# EAGLE library part RTL8211F-CG (library RTL8211F-CG)
NTEGRATED 10/100/1000M ETHERNET TRANSCEIVER Source: Datasheet
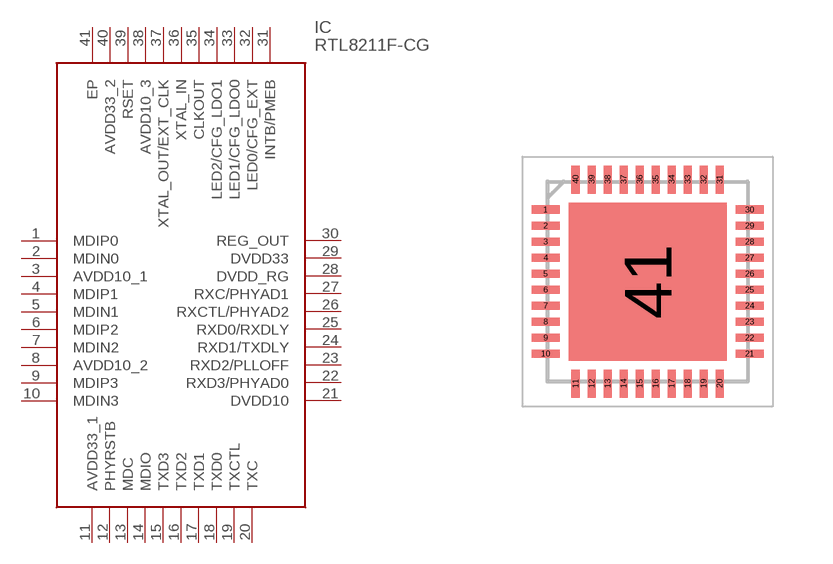
[diagram p0: symbol with the pads of QFN40P500X500X90-41N; footprint QFN40P500X500X90-41N]

Designator prefix IC

## RTL8211F-CG (Description: NTEGRATED 10/100/1000M ETHERNET TRANSCEIVER; Height: 0.9mm; Manufacturer_Name: Realtek; Manufacturer_Part_Number: RTL8211F-CG)  [QFN40P500X500X90-41N]
1  MDIP0
2  MDIN0
3  AVDD10_1
4  MDIP1
5  MDIN1
6  MDIP2
7  MDIN2
8  AVDD10_2
9  MDIP3
10  MDIN3
11  AVDD33_1
12  PHYRSTB
13  MDC
14  MDIO
15  TXD3
16  TXD2
17  TXD1
18  TXD0
19  TXCTL
20  TXC
21  DVDD10
22  RXD3/PHYAD0
23  RXD2/PLLOFF
24  RXD1/TXDLY
25  RXD0/RXDLY
26  RXCTL/PHYAD2
27  RXC/PHYAD1
28  DVDD_RG
29  DVDD33
30  REG_OUT
31  INTB/PMEB
32  LED0/CFG_EXT
33  LED1/CFG_LDO0
34  LED2/CFG_LDO1
35  CLKOUT
36  XTAL_IN
37  XTAL_OUT/EXT_CLK
38  AVDD10_3
39  RSET
40  AVDD33_2
41  EP

## Footprint QFN40P500X500X90-41N (pad centres in mm)
QFN-41
smd 0.7 x 0.2: 1 -2.55,1.8; 2 -2.55,1.4; 3 -2.55,1; 4 -2.55,0.6; 5 -2.55,0.2; 6 -2.55,-0.2; 7 -2.55,-0.6; 8 -2.55,-1; 9 -2.55,-1.4; 10 -2.55,-1.8; 21 2.55,-1.8; 22 2.55,-1.4; 23 2.55,-1; 24 2.55,-0.6; 25 2.55,-0.2; 26 2.55,0.2; 27 2.55,0.6; 28 2.55,1; 29 2.55,1.4; 30 2.55,1.8
smd 0.2 x 0.7: 11 -1.8,-2.55; 12 -1.4,-2.55; 13 -1,-2.55; 14 -0.6,-2.55; 15 -0.2,-2.55; 16 0.2,-2.55; 17 0.6,-2.55; 18 1,-2.55; 19 1.4,-2.55; 20 1.8,-2.55; 31 1.8,2.55; 32 1.4,2.55; 33 1,2.55; 34 0.6,2.55; 35 0.2,2.55; 36 -0.2,2.55; 37 -0.6,2.55; 38 -1,2.55; 39 -1.4,2.55; 40 -1.8,2.55
smd 3.95 x 3.95: 41 0,0